# Altium schematic symbol library RC0603FR-0710KL.SchLib: 1 symbol
Pins are listed as number, name and electrical type; pins without a type are passive.

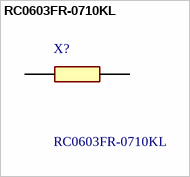
[diagram p0: symbol RC0603FR-0710KL]

## RC0603FR-0710KL
designator X?
Yageo RC Series Thick Film Surface Mount Resistor 0603 Case 10k; Manufacturer_Name: Yageo Group; Geometry.Height: 0.55mm; Mouser Part Number: 603-RC0603FR-0710KL; Mouser Price/Stock: https://www.mouser.co.uk/ProductDetail/YAGEO/RC0603FR-0710KL?qs=grNVn54RoB%252B3GtjbJj3wJQ%3D%3D; Manufacturer_Part_Number: RC0603FR-0710KL; Datasheet Link: http://www.yageo.com/documents/recent/PYu-RC0603_51_RoHS_L_v5.pdf
footprint RESC1608X55N
pins: 1, 2